# Altium schematic symbol library 1x_SolderPad_SMD.SchLib: 1 symbol
Pins are listed as number, name and electrical type; pins without a type are passive.

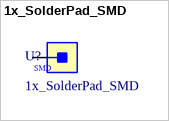
[diagram p0: symbol 1x_SolderPad_SMD]

## 1x_SolderPad_SMD
designator U?
footprint 1x_SolderPad_SMD
pins: 1
text: SMD